# Altium schematic symbol library Schlib1.SchLib: 3 symbols
Pins are listed as number, name and electrical type; pins without a type are passive.

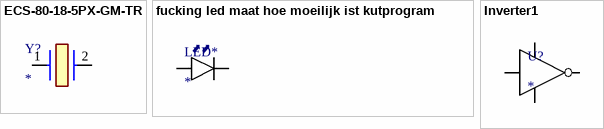
[diagram p0: symbols ECS-80-18-5PX-GM-TR to Inverter1]

## ECS-80-18-5PX-GM-TR
designator Y?
Crystal or Oscillator; Manufacturer_Name: ECS; Manufacturer_Part_Number: ECS-80-18-5PX-GM-TR; Datasheet Link: https://ecsxtal.com/store/pdf/csm-7x.pdf; Height: 4.3mm; Mouser Part Number: 520-80-18-5PX-GM-TR; Mouser Price/Stock: https://www.mouser.co.uk/ProductDetail/ECS/ECS-80-18-5PX-GM-TR?qs=amGC7iS6iy9i4EiBY7c3iQ%3D%3D
footprint ECS80185PXGMTR
pins: 1, 2

## fucking led maat hoe moeilijk ist kutprogram
designator LED*
footprint LED_SSL-LX4673GD-LA20
pins: 1, 2
text: ⬈⬈

## Inverter1
designator U?
Supplier 1: Digi-Key; Supplier Part Number 1: 296-8487-1-ND
footprint DBV5-M
pins: 2 A, 3 GND, 4 Y, 5 VCC